# EAGLE library part ADUM226N1BRIZ (library ADUM226N1BRIZ)
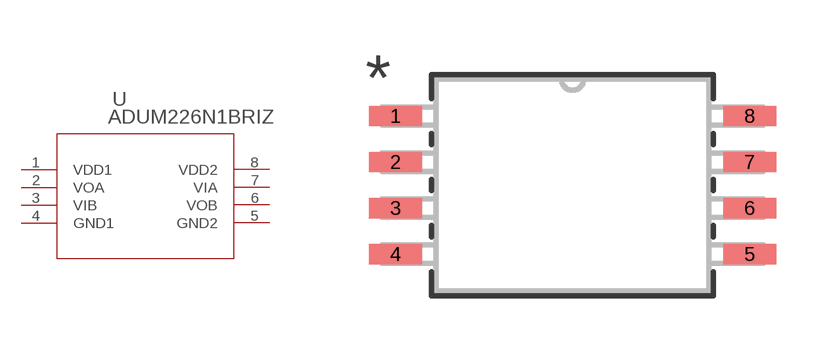
[diagram p0: symbol with the pads of RI_8_1_ADI; footprint RI_8_1_ADI]

Designator prefix U

## ADUM226N1BRIZ (BUILT_BY: Analog Devices Inc.; MANUFACTURER_PART_NUMBER: ADUM226N1BRIZ; SOURCELIBRARY: Analog_2018-03-03; VENDOR: Analog Devices Inc)  [RI_8_1_ADI]
1  VDD1  pas
2  VOA  pas
3  VIB  pas
4  GND1  pas
5  GND2  pas
6  VOB  pas
7  VIA  pas
8  VDD2  pas

## Footprint RI_8_1_ADI (pad centres in mm)
smd 1.461 x 0.561: 1 -4.88,1.905; 2 -4.88,0.635; 3 -4.88,-0.635; 4 -4.88,-1.905; 5 4.88,-1.905; 6 4.88,-0.635; 7 4.88,0.635; 8 4.88,1.905